# Altium schematic symbol library CONN-SINGLE-PIN.SchLib: 1 symbol
Pins are listed as number, name and electrical type; pins without a type are passive.

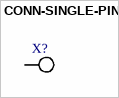
[diagram p0: symbol CONN-SINGLE-PIN]

## CONN-SINGLE-PIN
designator X?
pins: 1